# Altium footprint library SOI8_Package.PcbLib: 1 footprints
Each footprint in its own frame and in the unit in brackets; x right, y up, seen from the top. Pads: shape width x height; smd on the part's side, far side on the other; paste and mask are expansions set on the pad; w line width, h text height; cw(c..) or ccw(c..) is an arc to the next point about the centre after c.
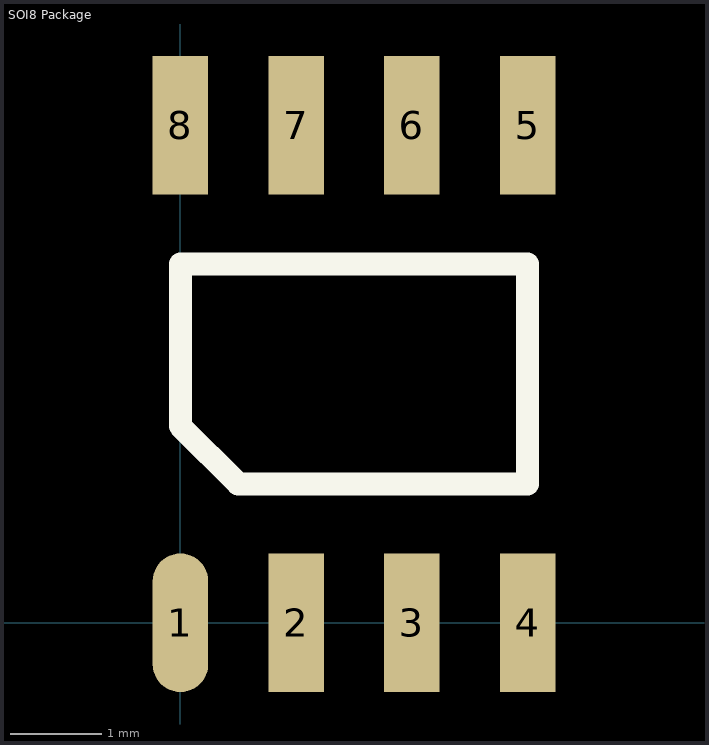
[diagram p0: the footprint, top view; thin cyan lines are the x and y axes]

## SOI8 Package [mil] "SOI8 Package"
pads (8):
  rrect100% 24x60 smd: 1(0,0)
  rect 24x60 smd: 2(50,0) 3(100,0) 4(150,0) 5(150,215) 6(100,215) 7(50,215) 8(0,215)
Top Overlay:
  lines w10: 0,85 0,155 150,155 150,60 25,60 0,85